# Altium footprint library 2020-10-24_18-56-50.PcbLib: 3 footprints
Each footprint in its own frame and in the unit in brackets; x right, y up, seen from the top. Pads: shape width x height; smd on the part's side, far side on the other; paste and mask are expansions set on the pad; w line width, h text height; cw(c..) or ccw(c..) is an arc to the next point about the centre after c.
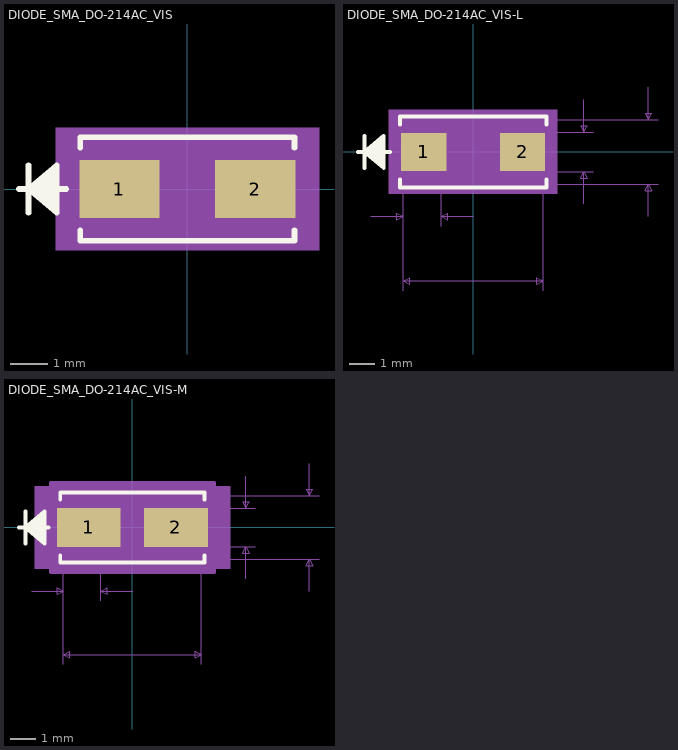
[diagram p0: the footprints below, top view; thin cyan lines are the x and y axes]

## DIODE_SMA_DO-214AC_VIS [mil]
pads (2):
  rect 85x61 smd paste+0 mask+0: 1(-72,0) 2(72,0)
Top Overlay:
  lines w6: -178.5,0 -128.5,0 ; -168.5,-25 -168.5,25 ; -138.5,-20 -168.5,0 ; -138.5,-15 -168.5,0 ; -138.5,-10 -168.5,0 ; -138.5,-5 -168.5,0 ; -138.5,5 -168.5,0 ; -138.5,10 -168.5,0 ; -138.5,15 -168.5,0 ; -138.5,20 -168.5,0 ; -113.5,-43.6 -113.5,-55 113.5,-55 113.5,-43.6 ; -113.5,43.6 -113.5,55 113.5,55 113.5,43.6 ; -168.5,0 -138.5,-25 -138.5,25 -168.5,0
Mechanical 5:
  region: 139.5,-65 -139.5,-65 -139.5,65 139.5,65
Mechanical 13:
  lines w1: -178.5,0 -128.5,0 ; -168.5,-25 -168.5,25 ; -138.5,-20 -168.5,0 ; -138.5,-15 -168.5,0 ; -138.5,-10 -168.5,0 ; -138.5,-5 -168.5,0 ; -138.5,5 -168.5,0 ; -138.5,10 -168.5,0 ; -138.5,15 -168.5,0 ; -138.5,20 -168.5,0 ; -168.5,0 -138.5,-25 -138.5,25 -168.5,0 ; -108.5,-50 -108.5,50 108.5,50 108.5,-50 -108.5,-50
Mechanical 15:
  region: -118.5,-40.5 -124.5,-40.5 -124.5,40.5 -118.5,40.5 -118.5,60 118.5,60 118.5,40.5 124.5,40.5 124.5,-40.5 118.5,-40.5 118.5,-60 -118.5,-60
  lines w6: -124.5,-40.5 -118.5,-40.5 -118.5,-60 118.5,-60 118.5,-40.5 124.5,-40.5 124.5,40.5 118.5,40.5 118.5,60 -118.5,60 -118.5,40.5 -124.5,40.5 -124.5,-40.5
3D body: height 10, standoff 0, extent 0,0 10,10

## DIODE_SMA_DO-214AC_VIS-L [mil]
pads (2):
  rect 70x59 smd paste+0 mask+0: 1(-76.5,0) 2(76.5,0)
Top Overlay:
  lines w6: -178.5,0 -128.5,0 ; -168.5,-25 -168.5,25 ; -138.5,-20 -168.5,0 ; -138.5,-15 -168.5,0 ; -138.5,-10 -168.5,0 ; -138.5,-5 -168.5,0 ; -138.5,5 -168.5,0 ; -138.5,10 -168.5,0 ; -138.5,15 -168.5,0 ; -138.5,20 -168.5,0 ; -113.5,-42.45 -113.5,-55 113.5,-55 113.5,-42.45 ; -113.5,42.45 -113.5,55 113.5,55 113.5,42.45 ; -168.5,0 -138.5,25 -138.5,-25 -168.5,0
Mechanical 5:
  region: 130.5,-65 -130.5,-65 -130.5,65 130.5,65
Mechanical 7:
  lines w1: -158.5,-100 -108.5,-100 ; -108.5,-215 -108.5,0 -108.5,-115 ; -49.5,-115 -49.5,0 ; 0.5,-100 -49.5,-100 ; 108.5,-215 108.5,0 ; 121.5,-50 286.5,-50 ; 121.5,-30.5 186.5,-30.5 ; 121.5,30.5 186.5,30.5 ; 121.5,50 286.5,50 ; 171.5,-80.5 171.5,-30.5 ; 171.5,80.5 171.5,30.5 ; 271.5,-100 271.5,-50 ; 271.5,100 271.5,50 ; -108.5,-200 108.5,-200 ; -108.5,-200 -98.5,-195 -98.5,-205 -108.5,-200 ; -108.5,-100 -118.5,-95 -118.5,-105 -108.5,-100 ; -49.5,-100 -39.5,-95 -39.5,-105 -49.5,-100 ; 108.5,-200 98.5,-195 98.5,-205 108.5,-200 ; 171.5,-30.5 166.5,-40.5 176.5,-40.5 171.5,-30.5 ; 171.5,30.5 166.5,40.5 176.5,40.5 171.5,30.5 ; 271.5,-50 266.5,-60 276.5,-60 271.5,-50 ; 271.5,50 266.5,60 276.5,60 271.5,50
  text "Default Padstyle: RX70Y59D0T" at -350,-325 h50
  text "Alt 1 Padstyle: OX60Y90D30P" at -337.5,-400 h50
  text "Alt 2 Padstyle: OX90Y60D30P" at -337.5,-475 h50
  text "0.061in/1.549mm" at 191.5,-12.5 h25
  text "0.1in/2.54mm" at 291.5,-12.5 h25
  text "0.217in/5.512mm" at -93.75,-245 h25
  text "0.059in/1.499mm" at -172.75,-145 h25
Mechanical 13:
  lines w1: -178.5,0 -128.5,0 ; -168.5,-25 -168.5,25 ; -138.5,-20 -168.5,0 ; -138.5,-15 -168.5,0 ; -138.5,-10 -168.5,0 ; -138.5,-5 -168.5,0 ; -138.5,5 -168.5,0 ; -138.5,10 -168.5,0 ; -138.5,15 -168.5,0 ; -138.5,20 -168.5,0 ; -168.5,0 -138.5,25 -138.5,-25 -168.5,0 ; -108.5,-50 108.5,-50 108.5,50 -108.5,50 -108.5,-50
Mechanical 15:
  region: -112.5,-34.5 -115.5,-34.5 -115.5,34.5 -112.5,34.5 -112.5,54 112.5,54 112.5,34.5 115.5,34.5 115.5,-34.5 112.5,-34.5 112.5,-54 -112.5,-54
  lines w6: -115.5,-34.5 -115.5,34.5 -112.5,34.5 -112.5,54 112.5,54 112.5,34.5 115.5,34.5 115.5,-34.5 112.5,-34.5 112.5,-54 -112.5,-54 -112.5,-34.5 -115.5,-34.5
3D body: height 10, standoff 0, extent 0,0 10,10

## DIODE_SMA_DO-214AC_VIS-M [mil]
pads (2):
  rect 100x61 smd paste+0 mask+0: 1(-68.5,0) 2(68.5,0)
Top Overlay:
  lines w6: -178.5,0 -131.6,0 ; -168.5,-25 -168.5,25 ; -138.5,-20 -168.5,0 ; -138.5,-15 -168.5,0 ; -138.5,-10 -168.5,0 ; -138.5,-5 -168.5,0 ; -138.5,5 -168.5,0 ; -138.5,10 -168.5,0 ; -138.5,15 -168.5,0 ; -138.5,20 -168.5,0 ; -113.5,-43.6 -113.5,-55 113.5,-55 113.5,-43.6 ; -113.5,43.6 -113.5,55 113.5,55 113.5,43.6 ; -168.5,0 -138.5,-25 -138.5,25 -168.5,0
Mechanical 5:
  region: 153.5,-65 -153.5,-65 -153.5,65 153.5,65
Mechanical 7:
  lines w1: -158.5,-100 -108.5,-100 ; -108.5,-215 -108.5,0 -108.5,-115 ; -49.5,-115 -49.5,0 ; 0.5,-100 -49.5,-100 ; 108.5,-215 108.5,0 ; 128.5,-50 293.5,-50 ; 128.5,-30.5 193.5,-30.5 ; 128.5,30.5 193.5,30.5 ; 128.5,50 293.5,50 ; 178.5,-80.5 178.5,-30.5 ; 178.5,80.5 178.5,30.5 ; 278.5,-100 278.5,-50 ; 278.5,100 278.5,50 ; -108.5,-200 -98.5,-205 -98.5,-195 -108.5,-200 ; -108.5,-200 108.5,-200 ; -108.5,-100 -118.5,-105 -118.5,-95 -108.5,-100 ; -49.5,-100 -39.5,-105 -39.5,-95 -49.5,-100 ; 108.5,-200 98.5,-205 98.5,-195 108.5,-200 ; 178.5,-30.5 183.5,-40.5 173.5,-40.5 178.5,-30.5 ; 178.5,30.5 183.5,40.5 173.5,40.5 178.5,30.5 ; 278.5,-50 283.5,-60 273.5,-60 278.5,-50 ; 278.5,50 283.5,60 273.5,60 278.5,50
  text "0.059in/1.499mm" at -172.75,-145 h25
  text "0.217in/5.512mm" at -93.75,-245 h25
  text "0.1in/2.54mm" at 298.5,-12.5 h25
  text "0.061in/1.549mm" at 198.5,-12.5 h25
  text "Alt 2 Padstyle: OX90Y60D30P" at -337.5,-475 h50
  text "Alt 1 Padstyle: OX60Y90D30P" at -337.5,-400 h50
  text "Default Padstyle: RX100Y61D0T" at -362.5,-325 h50
Mechanical 13:
  lines w1: -178.5,0 -128.5,0 ; -168.5,-25 -168.5,25 ; -138.5,-20 -168.5,0 ; -138.5,-15 -168.5,0 ; -138.5,-10 -168.5,0 ; -138.5,-5 -168.5,0 ; -138.5,5 -168.5,0 ; -138.5,10 -168.5,0 ; -138.5,15 -168.5,0 ; -138.5,20 -168.5,0 ; -168.5,0 -138.5,-25 -138.5,25 -168.5,0 ; -108.5,-50 -108.5,50 108.5,50 108.5,-50 -108.5,-50
Mechanical 15:
  region: -128.5,-50.5 -138.5,-50.5 -138.5,50.5 -128.5,50.5 -128.5,70 128.5,70 128.5,50.5 138.5,50.5 138.5,-50.5 128.5,-50.5 128.5,-70 -128.5,-70
  lines w6: -138.5,-50.5 -128.5,-50.5 -128.5,-70 128.5,-70 128.5,-50.5 138.5,-50.5 138.5,50.5 128.5,50.5 128.5,70 -128.5,70 -128.5,50.5 -138.5,50.5 -138.5,-50.5
3D body: height 10, standoff 0, extent 0,0 10,10